# EAGLE library part MASWSS0178 (library rf-jqi)
MASWSS0178, SPDT high-isolation terminated RF switch, 0.01-3.0 GHz
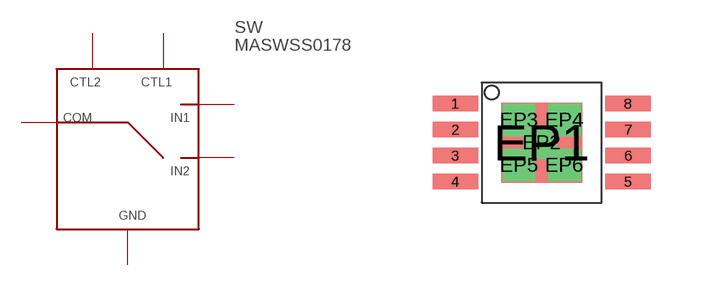
[diagram p16: symbol with the pads of MSOP-8EP; footprint MSOP-8EP]

Designator prefix SW

## MASWSS0178  [MSOP-8EP]
1  CTL1
2  CTL2
3  COM
4  GND
5  IN2
6  GND
7  GND
8  IN1
EP1  GND
EP2  GND
EP3  GND
EP4  GND
EP5  GND
EP6  GND

## Footprint MSOP-8EP (pad centres in mm)
smd 1.14 x 0.38: 1 -2.16,0.975; 2 -2.16,0.325; 3 -2.16,-0.325; 4 -2.16,-0.975; 5 2.16,-0.975; 6 2.16,-0.325; 7 2.16,0.325; 8 2.16,0.975
smd 2.03 x 2: EP1 0,0
drill 0.305 square: EP2 0,0; EP3 -0.565,0.565; EP4 0.565,0.565; EP5 -0.565,-0.565; EP6 0.565,-0.565